# EAGLE library part WE-RJ45_74980104400 (library WE-RJ45_LAN)
WE-RJ45 LAN Through Hole Reflow Characteristics RJ45 designed to use for Pin-in-Paste soldering High mechanical stability through THT pins High Temperature LEDs Extra high standoff for a good thermal airflow Power over Ethernet up to 30 W Compliant with standard: IEEE 802.3u, IEEE 802.3ab, IEEE 802.3af, IEEE 802.3at Applications Suitable for industrial temperatures from –40 °C up to +85 °C Compatible to Industrial Ethernet systems like EtherCAT or Profinet Compliant with most IC’s for Ethernet applications such as Microchip, Texas Instruments, Broadcom, Linear Technology Hubs, Routers, Switches, IP cameras, IoT applications <https://www.we-online.com/components/media/o713596v209%20family-we-rj45-lan-74980xxx.jpg> Details see: www.we-online.com/components/products/WE-LAN-RJ45_THR <www.we-online.com/catalog/WE-LAN-RJ45_THR/?utm_source=eagle_model&utm_medium=description_link&utm_campaign=eisos_eagle> Updated by Ella Wu 2023-08-16 2023 (C) Wurth Elektronik
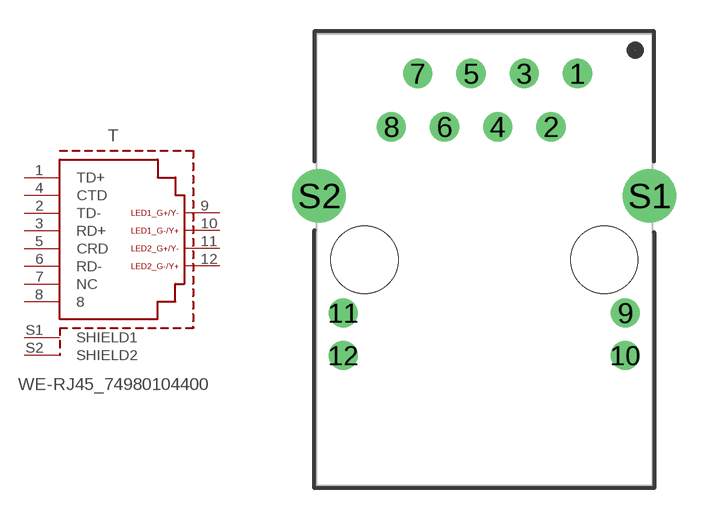
[diagram p64: symbol with the pads of 74980104400; footprint 74980104400]

Designator prefix T

## WE-RJ45_74980104400 (DATA-RATE: 100BASE-TX; DATASHEET-URL: https://www.we-online.com/redexpert/spec/74980104400?ae; IMPROVED-CMRR: No; LED: green/yellow - green/yellow; MOUNT: THR; OPERATING-TEMPERATURE: -40 °C up to +85 °C; PART-NUMBER: 74980104400; PHY-CHIP-MODE: current & voltage; POE: non-PoE; PORTS: 1; SHIELD-TABS: No; TAB: Up; USB: No; VALUE: 74980104400)  [74980104400]
1  TD+  pas
2  TD-  pas
3  RD+  pas
4  CTD  pas
5  CRD  pas
6  RD-  pas
7  NC  pas
8  8  pas
9  LED1_G+/Y-  pas
10  LED1_G-/Y+  pas
11  LED2_G+_Y-  pas
12  LED2_G-_Y+  pas
S1  SHIELD1  pas
S2  SHIELD2  pas

## Footprint 74980104400 (pad centres in mm)
WE-RJ45 LAN Through Hole Reflow 10/100 Base-T
drill 0.89: 1 4.445,8.89; 2 3.185,6.35; 3 1.905,8.89; 4 0.645,6.35; 5 -0.635,8.89; 6 -1.895,6.35; 7 -3.175,8.89; 8 -4.435,6.35; 9 6.725,-2.54; 10 6.725,-4.57; 11 -6.725,-2.54; 12 -6.725,-4.57
drill 1.7: S1 7.875,3.05; S2 -7.875,3.05
hole 3.2 at 5.715,0
hole 3.2 at -5.715,0